# Altium schematic symbol library Active-BJT.SchLib: 5 symbols
Pins are listed as number, name and electrical type; pins without a type are passive.

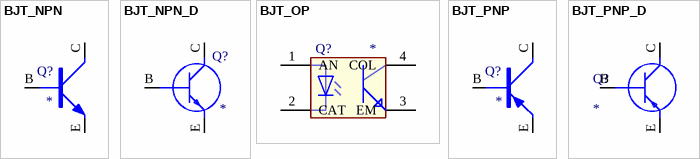
[diagram p0: symbols BJT_NPN to BJT_PNP_D]

## BJT_NPN
designator Q?
NPN三极管; Manufacturer_Name: *; Manufacturer_Part_Number: *
footprint SOT-23-3
footprint TO126 (126晶体管)
footprint TO220A (220，3脚晶体管)
footprint TO220B (220，3脚晶体管)
footprint TO-92A
footprint TO-92B
footprint SOT-523
pins: B, C, E
1 alternate drawing of the same symbol

## BJT_NPN_D
designator Q?
NPN数字三极管; Manufacturer_Name: *; Manufacturer_Part_Number: *
footprint SOT-523
pins: B, C, E

## BJT_OP
designator Q?
光耦晶体管; Manufacturer_Name: PS2801-1-F3; Manufacturer_Part_Number: RENESAS(瑞萨)/IDT
footprint SOP-4-1.27MM
pins: 1 AN, 2 CAT, 3 EM, 4 COL
1 alternate drawing of the same symbol

## BJT_PNP
designator Q?
PNP三极管; Manufacturer_Name: *; Manufacturer_Part_Number: *
footprint SOT-23-3
footprint TO126 (126晶体管)
footprint TO220A (220，3脚晶体管)
footprint TO220B (220，3脚晶体管)
footprint TO-92A
footprint TO-92B
footprint SOT-523
pins: B, C, E

## BJT_PNP_D
designator Q?
PNP数字三极管; Manufacturer_Name: *; Manufacturer_Part_Number: *
footprint SOT-523
pins: B, C, E